# EAGLE library part LT1370CT7 (library linear-technology)
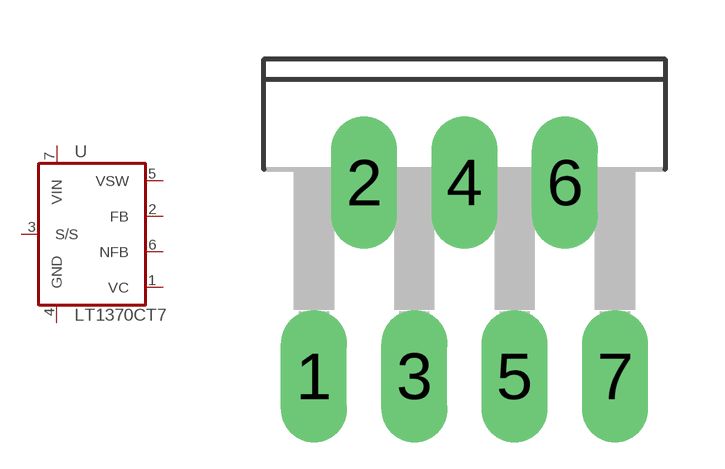
[diagram p7: symbol with the pads of TO220-7; footprint TO220-7]

Designator prefix U

## LT1370CT7  [TO220-7]
1  VC  in
2  FB  in
3  S/S  in
4  GND  pwr
5  VSW  in
6  NFB  in
7  VIN  pwr

## Footprint TO220-7 (pad centres in mm)
drill 1.118 pad 1.626 long: 1 -3.81,-2.956; 2 -2.54,1.954; 3 -1.27,-2.956; 4 0,1.954; 5 1.27,-2.956; 6 2.54,1.954; 7 3.81,-2.956